# EAGLE library part LORADUO (library SobieskiSat2)
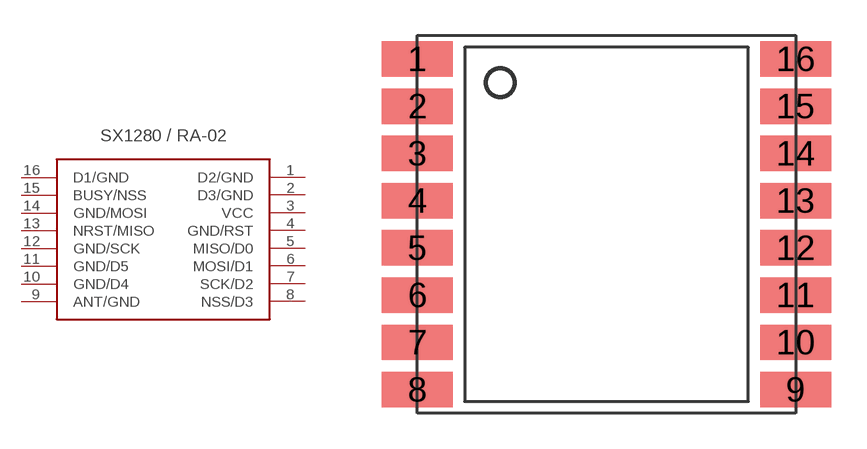
[diagram p17: symbol with the pads of MODULE_SX1280; footprint MODULE_SX1280]

Designator prefix -

## LORADUO  [MODULE_SX1280]
1  D2/GND
2  D3/GND
3  VCC
4  GND/RST
5  MISO/D0
6  MOSI/D1
7  SCK/D2
8  NSS/D3
9  ANT/GND
10  GND/D4
11  GND/D5
12  GND/SCK
13  NRST/MISO
14  GND/MOSI
15  BUSY/NSS
16  D1/GND

## Footprint MODULE_SX1280 (pad centres in mm)
smd 3 x 1.5: 1 -8,7; 2 -8,5; 3 -8,3; 4 -8,1; 5 -8,-1; 6 -8,-3; 7 -8,-5; 8 -8,-7; 9 8,-7; 10 8,-5; 11 8,-3; 12 8,-1; 13 8,1; 14 8,3; 15 8,5; 16 8,7